# EAGLE library part TEXAS_INSTRUMENTS-BUCK_CONVERTER-TPS53513RVER (library Module_Regulators)
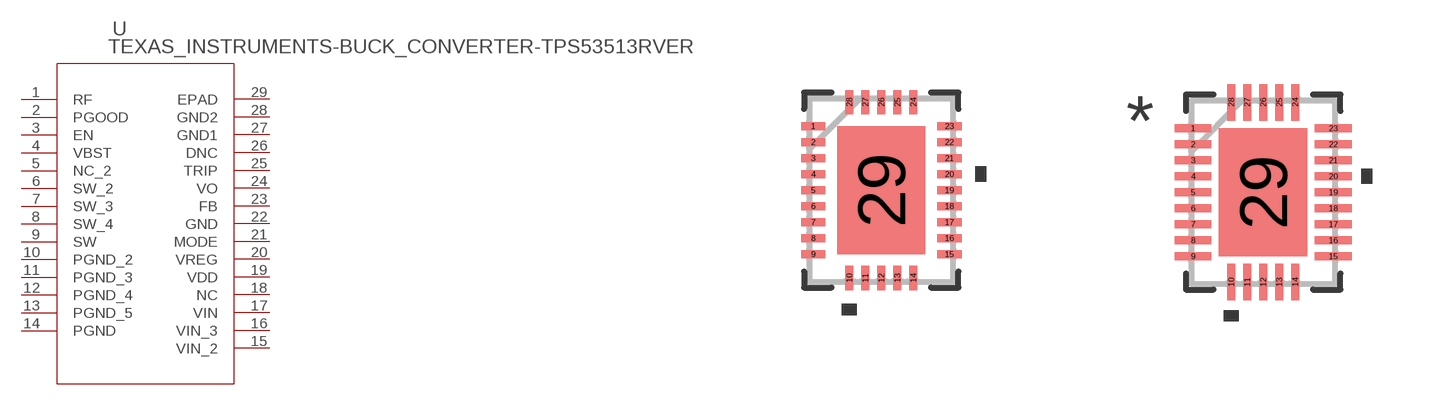
[diagram p47: symbol with the pads of RVE28_TEX; footprints RVE28_TEX, RVE28_TEX-M]

Designator prefix U

## TEXAS_INSTRUMENTS-BUCK_CONVERTER-TPS53513RVER (BUILT_BY: EMA_Molly; COPYRIGHT: Copyright (C) 2018 Accelerated Designs. All rights reserved; MANUFACTURER_PART_NUMBER: TPS53513RVER; SOURCELIBRARY: TI_2019-05-24; VENDOR: Texas Instruments)  [RVE28_TEX]
1  RF  pas
2  PGOOD  pwr
3  EN  pas
4  VBST  pas
5  NC_2  nc
6  SW_2  pas
7  SW_3  pas
8  SW_4  pas
9  SW  pas
10  PGND_2  pas
11  PGND_3  pas
12  PGND_4  pas
13  PGND_5  pas
14  PGND  pas
15  VIN_2  pas
16  VIN_3  pas
17  VIN  pas
18  NC  nc
19  VDD  pwr
20  VREG  pas
21  MODE  pas
22  GND  pas
23  FB  pas
24  VO  pas
25  TRIP  pas
26  DNC  nc
27  GND1  pas
28  GND2  pas
29  EPAD  pas

## TEXAS_INSTRUMENTS-BUCK_CONVERTER-TPS53513RVERRVE28_TEX-M (BUILT_BY: EMA_Molly; COPYRIGHT: Copyright (C) 2018 Accelerated Designs. All rights reserved; MANUFACTURER_PART_NUMBER: TPS53513RVER; SOURCELIBRARY: TI_2019-05-24; VENDOR: Texas Instruments)  [RVE28_TEX-M]
Pads as for RVE28_TEX

## TEXAS_INSTRUMENTS-BUCK_CONVERTER-TPS53513RVERRVE28_TEX-L (BUILT_BY: EMA_Molly; COPYRIGHT: Copyright (C) 2018 Accelerated Designs. All rights reserved; MANUFACTURER_PART_NUMBER: TPS53513RVER; SOURCELIBRARY: TI_2019-05-24; VENDOR: Texas Instruments)  [RVE28_TEX-L]
Pads as for RVE28_TEX

## Footprint RVE28_TEX (pad centres in mm)
smd 0.61 x 0.203: 1 -1.702,1.6; 2 -1.702,1.2; 3 -1.702,0.8; 4 -1.702,0.4; 5 -1.702,0; 6 -1.702,-0.4; 7 -1.702,-0.8; 8 -1.702,-1.2; 9 -1.702,-1.6; 15 1.702,-1.6; 16 1.702,-1.2; 17 1.702,-0.8; 18 1.702,-0.4; 19 1.702,0; 20 1.702,0.4; 21 1.702,0.8; 22 1.702,1.2; 23 1.702,1.6
smd 0.203 x 0.61: 10 -0.8,-2.197; 11 -0.4,-2.197; 12 0,-2.197; 13 0.4,-2.197; 14 0.8,-2.197; 24 0.8,2.197; 25 0.4,2.197; 26 0,2.197; 27 -0.4,2.197; 28 -0.8,2.197
smd 2.21 x 3.2: 29 0,0

## Footprint RVE28_TEX-M (pad centres in mm)
smd 0.914 x 0.203: 1 -1.753,1.6; 2 -1.753,1.2; 3 -1.753,0.8; 4 -1.753,0.4; 5 -1.753,0; 6 -1.753,-0.4; 7 -1.753,-0.8; 8 -1.753,-1.2; 9 -1.753,-1.6; 15 1.753,-1.6; 16 1.753,-1.2; 17 1.753,-0.8; 18 1.753,-0.4; 19 1.753,0; 20 1.753,0.4; 21 1.753,0.8; 22 1.753,1.2; 23 1.753,1.6
smd 0.203 x 0.914: 10 -0.8,-2.248; 11 -0.4,-2.248; 12 0,-2.248; 13 0.4,-2.248; 14 0.8,-2.248; 24 0.8,2.248; 25 0.4,2.248; 26 0,2.248; 27 -0.4,2.248; 28 -0.8,2.248
smd 2.21 x 3.2: 29 0,0

## Footprint RVE28_TEX-L (pad centres in mm)
smd 0.711 x 0.203: 1 -1.651,1.6; 2 -1.651,1.2; 3 -1.651,0.8; 4 -1.651,0.4; 5 -1.651,0; 6 -1.651,-0.4; 7 -1.651,-0.8; 8 -1.651,-1.2; 9 -1.651,-1.6; 15 1.651,-1.6; 16 1.651,-1.2; 17 1.651,-0.8; 18 1.651,-0.4; 19 1.651,0; 20 1.651,0.4; 21 1.651,0.8; 22 1.651,1.2; 23 1.651,1.6
smd 0.203 x 0.711: 10 -0.8,-2.146; 11 -0.4,-2.146; 12 0,-2.146; 13 0.4,-2.146; 14 0.8,-2.146; 24 0.8,2.146; 25 0.4,2.146; 26 0,2.146; 27 -0.4,2.146; 28 -0.8,2.146
smd 2.21 x 3.2: 29 0,0